# Altium footprint library CMEJ-0415-42-P.PcbLib: 1 footprints
Each footprint in its own frame and in the unit in brackets; x right, y up, seen from the top. Pads: shape width x height; smd on the part's side, far side on the other; paste and mask are expansions set on the pad; w line width, h text height; cw(c..) or ccw(c..) is an arc to the next point about the centre after c.
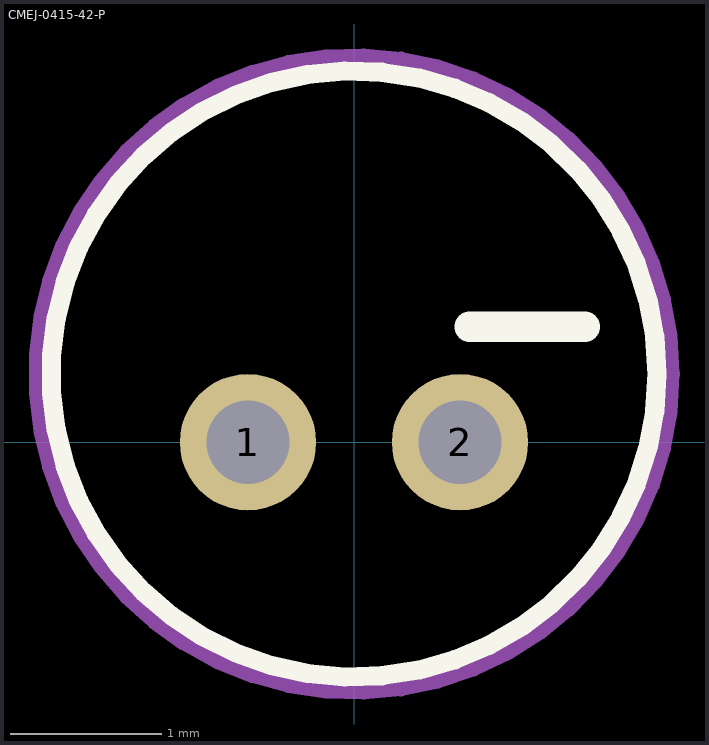
[diagram p0: the footprint, top view; thin cyan lines are the x and y axes]

## CMEJ-0415-42-P [mm]
pads (2):
  round 0.9 hole 0.55 mask+0.05: 1(-0.7,0) 2(0.7,0)
Top Overlay:
  circle w0.127: c0,0.45 r2
  lines w0.2: 0.762,0.762 1.524,0.762
Top Assembly:
  circle w0.1: c0,0.45 r2
Top Courtyard:
  circle w0.1: c0,0.45 r2.1
3D body "CUI_DEVICES_CMEJ-0415-42-P.step": height 1.78, standoff -1.76, extent -2,-1.524 2,2.476